# EAGLE library part AT89C5132 (library atmel)
USB Microcontroller with 64K Bytes Flash Memory Source: http://www.atmel.com/dyn/resources/prod_documents/doc4173.pdf
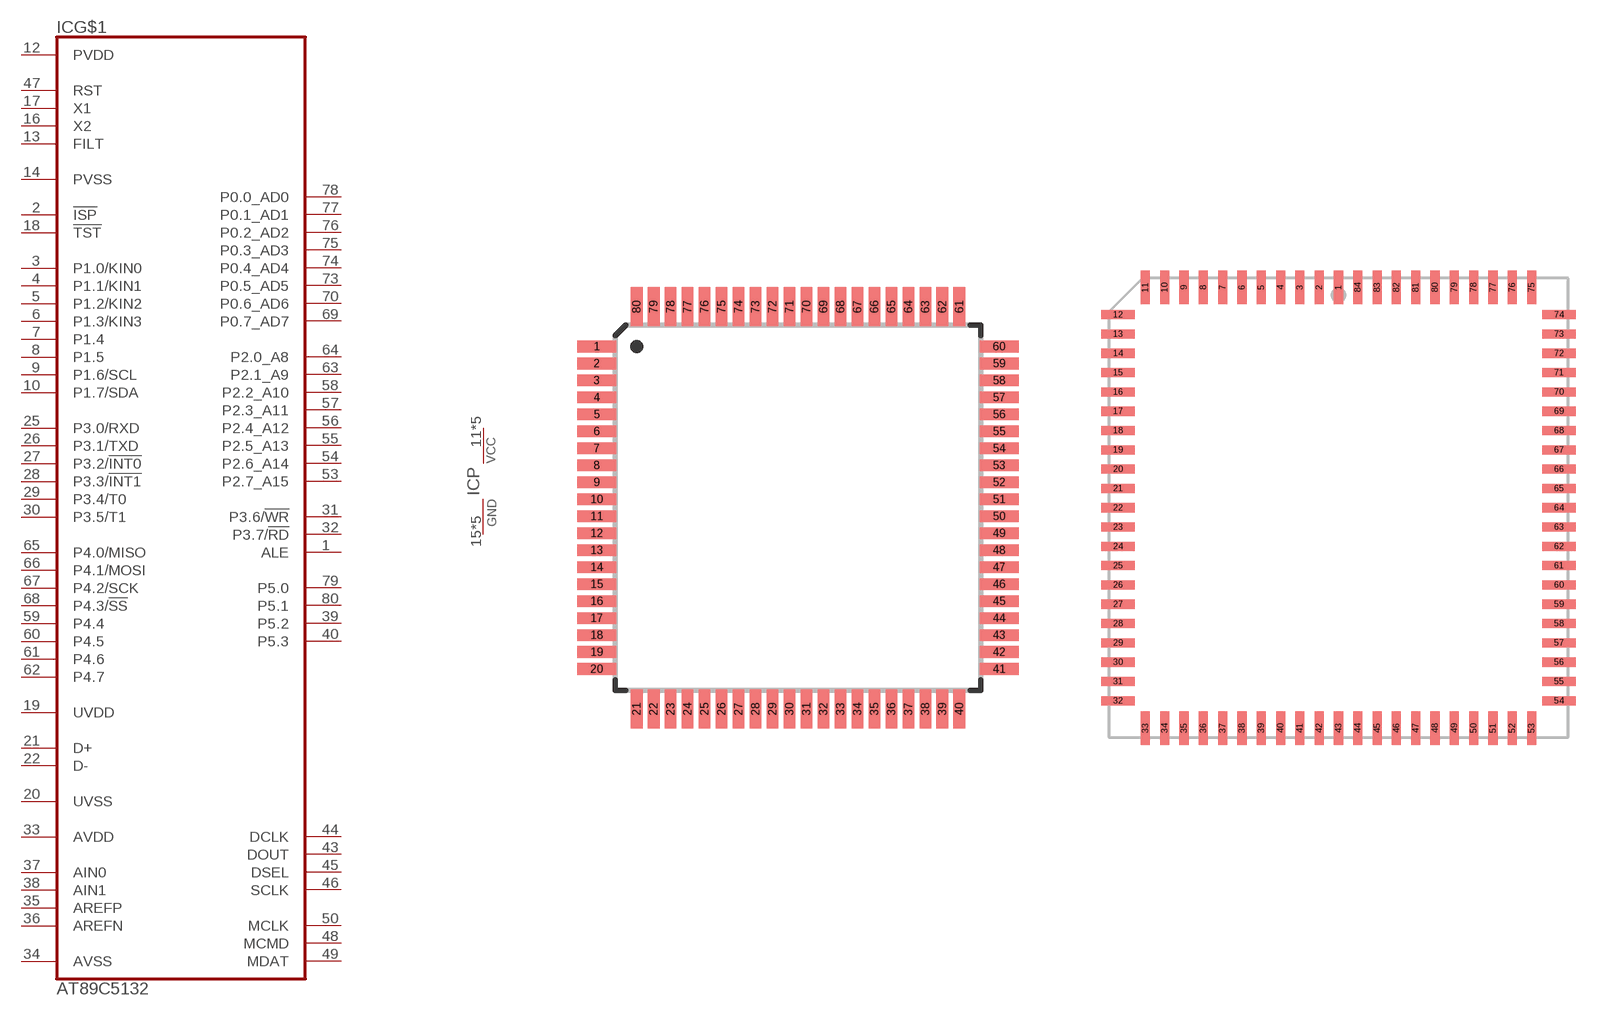
[diagram p13: symbol with the pads of QFP80_14X14_0.65; footprints QFP80_14X14_0.65, PLCC84]

Designator prefix IC; gates G$1=AT89C5132 P=PWR

## AT89C5132A  [QFP80_14X14_0.65]
1  G$1:ALE
2  G$1:!ISP
3  G$1:P1.0/KIN0
4  G$1:P1.1/KIN1
5  G$1:P1.2/KIN2
6  G$1:P1.3/KIN3
7  G$1:P1.4
8  G$1:P1.5
9  G$1:P1.6/SCL
10  G$1:P1.7/SDA
11  P:VCC  pwr
12  G$1:PVDD  pwr
13  G$1:FILT  in
14  G$1:PVSS  pwr
15  P:GND  pwr
16  G$1:X2  in
17  G$1:X1  in
18  G$1:!TST  in
19  G$1:UVDD  pwr
20  G$1:UVSS  pwr
21  G$1:D+
22  G$1:D-
23  P:VCC  pwr
24  P:GND  pwr
25  G$1:P3.0/RXD
26  G$1:P3.1/TXD
27  G$1:P3.2/!INT0
28  G$1:P3.3/!INT1
29  G$1:P3.4/T0
30  G$1:P3.5/T1
31  G$1:P3.6/!WR
32  G$1:P3.7/!RD
33  G$1:AVDD  pwr
34  G$1:AVSS  pwr
35  G$1:AREFP  in
36  G$1:AREFN  in
37  G$1:AIN0  in
38  G$1:AIN1  in
39  G$1:P5.2
40  G$1:P5.3
41  P:VCC  pwr
42  P:GND  pwr
43  G$1:DOUT  out
44  G$1:DCLK  out
45  G$1:DSEL  out
46  G$1:SCLK  out
47  G$1:RST  in
48  G$1:MCMD
49  G$1:MDAT
50  G$1:MCLK  out
51  P:VCC  pwr
52  P:GND  pwr
53  G$1:P2.7_A15
54  G$1:P2.6_A14
55  G$1:P2.5_A13
56  G$1:P2.4_A12
57  G$1:P2.3_A11
58  G$1:P2.2_A10
59  G$1:P4.4
60  G$1:P4.5
61  G$1:P4.6
62  G$1:P4.7
63  G$1:P2.1_A9
64  G$1:P2.0_A8
65  G$1:P4.0/MISO
66  G$1:P4.1/MOSI
67  G$1:P4.2/SCK
68  G$1:P4.3/!SS
69  G$1:P0.7_AD7
70  G$1:P0.6_AD6
71  P:VCC  pwr
72  P:GND  pwr
73  G$1:P0.5_AD5
74  G$1:P0.4_AD4
75  G$1:P0.3_AD3
76  G$1:P0.2_AD2
77  G$1:P0.1_AD1
78  G$1:P0.0_AD0
79  G$1:P5.0
80  G$1:P5.1

## AT89C5132J  [PLCC84]
1  P:VCC  pwr
2  P:GND  pwr
3  G$1:P0.5_AD5
4  G$1:P0.4_AD4
5  G$1:P0.3_AD3
6  G$1:P0.2_AD2
7  G$1:P0.1_AD1
8  G$1:P0.0_AD0
9  G$1:P5.0
10  G$1:P5.1
12  G$1:ALE
13  G$1:!ISP
14  G$1:P1.0/KIN0
15  G$1:P1.1/KIN1
16  G$1:P1.2/KIN2
17  G$1:P1.3/KIN3
18  G$1:P1.4
19  G$1:P1.5
20  G$1:P1.6/SCL
21  G$1:P1.7/SDA
22  P:VCC  pwr
23  G$1:PVDD  pwr
24  G$1:FILT  in
25  G$1:PVSS  pwr
26  P:GND  pwr
27  G$1:X2  in
29  G$1:X1  in
30  G$1:!TST  in
31  G$1:UVDD  pwr
32  G$1:UVSS  pwr
33  G$1:D+
34  G$1:D-
35  P:VCC  pwr
36  P:GND  pwr
37  G$1:P3.0/RXD
38  G$1:P3.1/TXD
39  G$1:P3.2/!INT0
40  G$1:P3.3/!INT1
41  G$1:P3.4/T0
42  G$1:P3.5/T1
43  G$1:P3.6/!WR
44  G$1:P3.7/!RD
45  G$1:AVDD  pwr
46  G$1:AVSS  pwr
47  G$1:AREFP  in
48  G$1:AREFN  in
49  G$1:AIN0  in
50  G$1:AIN1  in
51  G$1:P5.2
52  G$1:P5.3
54  P:VCC  pwr
55  P:GND  pwr
56  G$1:DOUT  out
57  G$1:DCLK  out
58  G$1:DSEL  out
59  G$1:SCLK  out
60  G$1:RST  in
61  G$1:MCMD
62  G$1:MDAT
63  G$1:MCLK  out
64  P:VCC  pwr
65  P:GND  pwr
66  G$1:P2.7_A15
67  G$1:P2.6_A14
68  G$1:P2.5_A13
69  G$1:P2.4_A12
70  G$1:P2.3_A11
71  G$1:P2.2_A10
72  G$1:P4.4
73  G$1:P4.5
75  G$1:P4.6
76  G$1:P4.7
77  G$1:P2.1_A9
78  G$1:P2.0_A8
79  G$1:P4.0/MISO
80  G$1:P4.1/MOSI
81  G$1:P4.2/SCK
82  G$1:P4.3/!SS
83  G$1:P0.7_AD7
84  G$1:P0.6_AD6

## Footprint QFP80_14X14_0.65 (pad centres in mm)
Thin Plasic Quad Flat Package, 14mm x 14mm body, 0.65mm lead pitch JEDEC: ATMEL Code:
smd 1.5 x 0.45: 1 -7.7,6.175; 2 -7.7,5.525; 3 -7.7,4.875; 4 -7.7,4.225; 5 -7.7,3.575; 6 -7.7,2.925; 7 -7.7,2.275; 8 -7.7,1.625; 9 -7.7,0.975; 10 -7.7,0.325; 11 -7.7,-0.325; 12 -7.7,-0.975; 13 -7.7,-1.625; 14 -7.7,-2.275; 15 -7.7,-2.925; 16 -7.7,-3.575; 17 -7.7,-4.225; 18 -7.7,-4.875; 19 -7.7,-5.525; 20 -7.7,-6.175; 41 7.7,-6.175; 42 7.7,-5.525; 43 7.7,-4.875; 44 7.7,-4.225; 45 7.7,-3.575; 46 7.7,-2.925; 47 7.7,-2.275; 48 7.7,-1.625; 49 7.7,-0.975; 50 7.7,-0.325; 51 7.7,0.325; 52 7.7,0.975; 53 7.7,1.625; 54 7.7,2.275; 55 7.7,2.925; 56 7.7,3.575; 57 7.7,4.225; 58 7.7,4.875; 59 7.7,5.525; 60 7.7,6.175
smd 0.45 x 1.5: 21 -6.175,-7.7; 22 -5.525,-7.7; 23 -4.875,-7.7; 24 -4.225,-7.7; 25 -3.575,-7.7; 26 -2.925,-7.7; 27 -2.275,-7.7; 28 -1.625,-7.7; 29 -0.975,-7.7; 30 -0.325,-7.7; 31 0.325,-7.7; 32 0.975,-7.7; 33 1.625,-7.7; 34 2.275,-7.7; 35 2.925,-7.7; 36 3.575,-7.7; 37 4.225,-7.7; 38 4.875,-7.7; 39 5.525,-7.7; 40 6.175,-7.7; 61 6.175,7.7; 62 5.525,7.7; 63 4.875,7.7; 64 4.225,7.7; 65 3.575,7.7; 66 2.925,7.7; 67 2.275,7.7; 68 1.625,7.7; 69 0.975,7.7; 70 0.325,7.7; 71 -0.325,7.7; 72 -0.975,7.7; 73 -1.625,7.7; 74 -2.275,7.7; 75 -2.925,7.7; 76 -3.575,7.7; 77 -4.225,7.7; 78 -4.875,7.7; 79 -5.525,7.7; 80 -6.175,7.7

## Footprint PLCC84 (pad centres in mm)
square Plastic Leaded Chip Carrier, 30mm x 30mm body, 50mil lead pitch
smd 0.6 x 2.2: 1 0,14.5; 2 -1.27,14.5; 3 -2.54,14.5; 4 -3.81,14.5; 5 -5.08,14.5; 6 -6.35,14.5; 7 -7.62,14.5; 8 -8.89,14.5; 9 -10.16,14.5; 10 -11.43,14.5; 11 -12.7,14.5; 33 -12.7,-14.5; 34 -11.43,-14.5; 35 -10.16,-14.5; 36 -8.89,-14.5; 37 -7.62,-14.5; 38 -6.35,-14.5; 39 -5.08,-14.5; 40 -3.81,-14.5; 41 -2.54,-14.5; 42 -1.27,-14.5; 43 0,-14.5; 44 1.27,-14.5; 45 2.54,-14.5; 46 3.81,-14.5; 47 5.08,-14.5; 48 6.35,-14.5; 49 7.62,-14.5; 50 8.89,-14.5; 51 10.16,-14.5; 52 11.43,-14.5; 53 12.7,-14.5; 75 12.7,14.5; 76 11.43,14.5; 77 10.16,14.5; 78 8.89,14.5; 79 7.62,14.5; 80 6.35,14.5; 81 5.08,14.5; 82 3.81,14.5; 83 2.54,14.5; 84 1.27,14.5
smd 2.2 x 0.6: 12 -14.5,12.7; 13 -14.5,11.43; 14 -14.5,10.16; 15 -14.5,8.89; 16 -14.5,7.62; 17 -14.5,6.35; 18 -14.5,5.08; 19 -14.5,3.81; 20 -14.5,2.54; 21 -14.5,1.27; 22 -14.5,0; 23 -14.5,-1.27; 24 -14.5,-2.54; 25 -14.5,-3.81; 26 -14.5,-5.08; 27 -14.5,-6.35; 28 -14.5,-7.62; 29 -14.5,-8.89; 30 -14.5,-10.16; 31 -14.5,-11.43; 32 -14.5,-12.7; 54 14.5,-12.7; 55 14.5,-11.43; 56 14.5,-10.16; 57 14.5,-8.89; 58 14.5,-7.62; 59 14.5,-6.35; 60 14.5,-5.08; 61 14.5,-3.81; 62 14.5,-2.54; 63 14.5,-1.27; 64 14.5,0; 65 14.5,1.27; 66 14.5,2.54; 67 14.5,3.81; 68 14.5,5.08; 69 14.5,6.35; 70 14.5,7.62; 71 14.5,8.89; 72 14.5,10.16; 73 14.5,11.43; 74 14.5,12.7